# Altium schematic symbol library PressureSensor.Schlib: 1 symbol
Pins are listed as number, name and electrical type; pins without a type are passive.

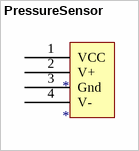
[diagram p0: symbol PressureSensor]

## PressureSensor
designator *
pins: 1 VCC, 2 V+, 3 Gnd, 4 V-